# EAGLE library part S6B-PH-SM4-TB(LF)(SN) (library con-jst_ph)
Check availability <https://pricing.snapeda.com/parts/S6B-PH-SM4-TB%28LF%29%28SN%29/JST%20Sales/view-part?ref=eda>
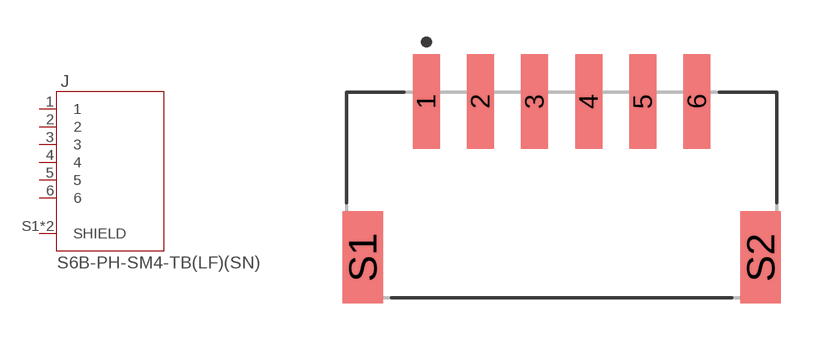
[diagram p1: symbol with the pads of JST_S6B-PH-SM4-TB(LF)(SN); footprint JST_S6B-PH-SM4-TB(LF)(SN)]

Designator prefix J

## S6B-PH-SM4-TB(LF)(SN) (AVAILABILITY: In Stock; CHECK_PRICES: https://www.snapeda.com/parts/S6B-PH-SM4-TB(LF)(SN)/JST/view-part/?ref=eda; DESCRIPTION: Connector Header Surface Mount, Right Angle 6 position 0.079 (2.00mm); MF: JST Sales; MP: S6B-PH-SM4-TB(LF)(SN); PACKAGE: None; PRICE: None; SNAPEDA_LINK: https://www.snapeda.com/parts/S6B-PH-SM4-TB(LF)(SN)/JST/view-part/?ref=snap)  [JST_S6B-PH-SM4-TB(LF)(SN)]
1  1  pas
2  2  pas
3  3  pas
4  4  pas
5  5  pas
6  6  pas
S1  SHIELD  pas
S2  SHIELD  pas

## Footprint JST_S6B-PH-SM4-TB(LF)(SN) (pad centres in mm)
smd 1 x 3.5: 1 0,0; 2 2,0; 3 4,0; 4 6,0; 5 8,0; 6 10,0
smd 1.5 x 3.4: S1 -2.35,-5.75; S2 12.35,-5.75